# Altium schematic symbol library TS53YL101MR10.SchLib: 1 symbol
Pins are listed as number, name and electrical type; pins without a type are passive.

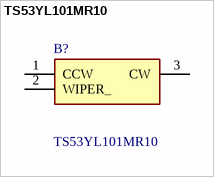
[diagram p0: symbol TS53YL101MR10]

## TS53YL101MR10
designator B?
100 Ohms 0.25W, 1/4W Gull Wing Surface Mount Trimmer Potentiometer Cermet 1.0 Turn Top Adjustment; Manufacturer_Name: Vishay; Geometry.Height: 2.95mm; Mouser Part Number: 72-TS53YL-100; Mouser Price/Stock: https://www.mouser.co.uk/ProductDetail/Vishay-Sfernice/TS53YL101MR10?qs=MsRaK5qBadT6tnoIaqjVGQ%3D%3D; Manufacturer_Part_Number: TS53YL101MR10; Datasheet Link: http://www.vishay.com/docs/51008/ts53.pdf
footprint TS53YL101MR10
pins: 1 CCW, 2 WIPER_, 3 CW